# EAGLE library part AVR128DA28 (library U-AVR)
AVR128DA28-I/[SO | SP] IC MCU 8BIT 128kB FLASH 16kB SRAM SP = SPDIP 28 PIN SO = SOIC 28 PIN
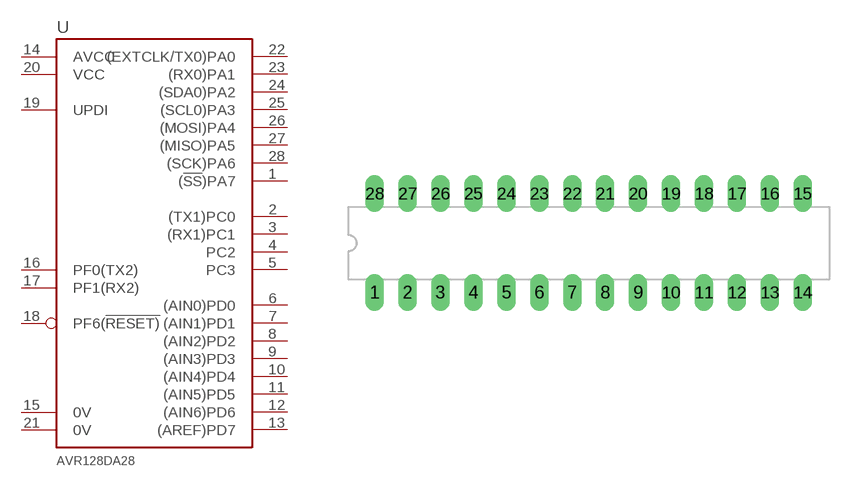
[diagram p21: symbol with the pads of DIL28-3; footprint DIL28-3]

Designator prefix U

## AVR128DA28-I/SP  [DIL28-3]
1  (!SS!)PA7
2  (TX1)PC0
3  (RX1)PC1
4  PC2
5  PC3
6  (AIN0)PD0
7  (AIN1)PD1
8  (AIN2)PD2
9  (AIN3)PD3
10  (AIN4)PD4
11  (AIN5)PD5
12  (AIN6)PD6
13  (AREF)PD7  pas
14  AVCC  pas
15  0V  pwr
16  PF0(TX2)
17  PF1(RX2)
18  PF6(!RESET)  in
19  UPDI
20  VCC  pwr
21  0V  pwr
22  (EXTCLK/TX0)PA0
23  (RX0)PA1
24  (SDA0)PA2
25  (SCL0)PA3
26  (MOSI)PA4
27  (MISO)PA5
28  (SCK)PA6

## Footprint DIL28-3 (pad centres in mm)
Dual In Line 0.3 inch
drill 0.85 pad 1.422 long: 1 -16.51,-3.81; 2 -13.97,-3.81; 3 -11.43,-3.81; 4 -8.89,-3.81; 5 -6.35,-3.81; 6 -3.81,-3.81; 7 -1.27,-3.81; 8 1.27,-3.81; 9 3.81,-3.81; 10 6.35,-3.81; 11 8.89,-3.81; 12 11.43,-3.81; 13 13.97,-3.81; 14 16.51,-3.81; 15 16.51,3.81; 16 13.97,3.81; 17 11.43,3.81; 18 8.89,3.81; 19 6.35,3.81; 20 3.81,3.81; 21 1.27,3.81; 22 -1.27,3.81; 23 -3.81,3.81; 24 -6.35,3.81; 25 -8.89,3.81; 26 -11.43,3.81; 27 -13.97,3.81; 28 -16.51,3.81